# Altium footprint library thd_footp.PcbLib: 15 footprints
Each footprint in its own frame and in the unit in brackets; x right, y up, seen from the top. Pads: shape width x height; smd on the part's side, far side on the other; paste and mask are expansions set on the pad; w line width, h text height; cw(c..) or ccw(c..) is an arc to the next point about the centre after c.
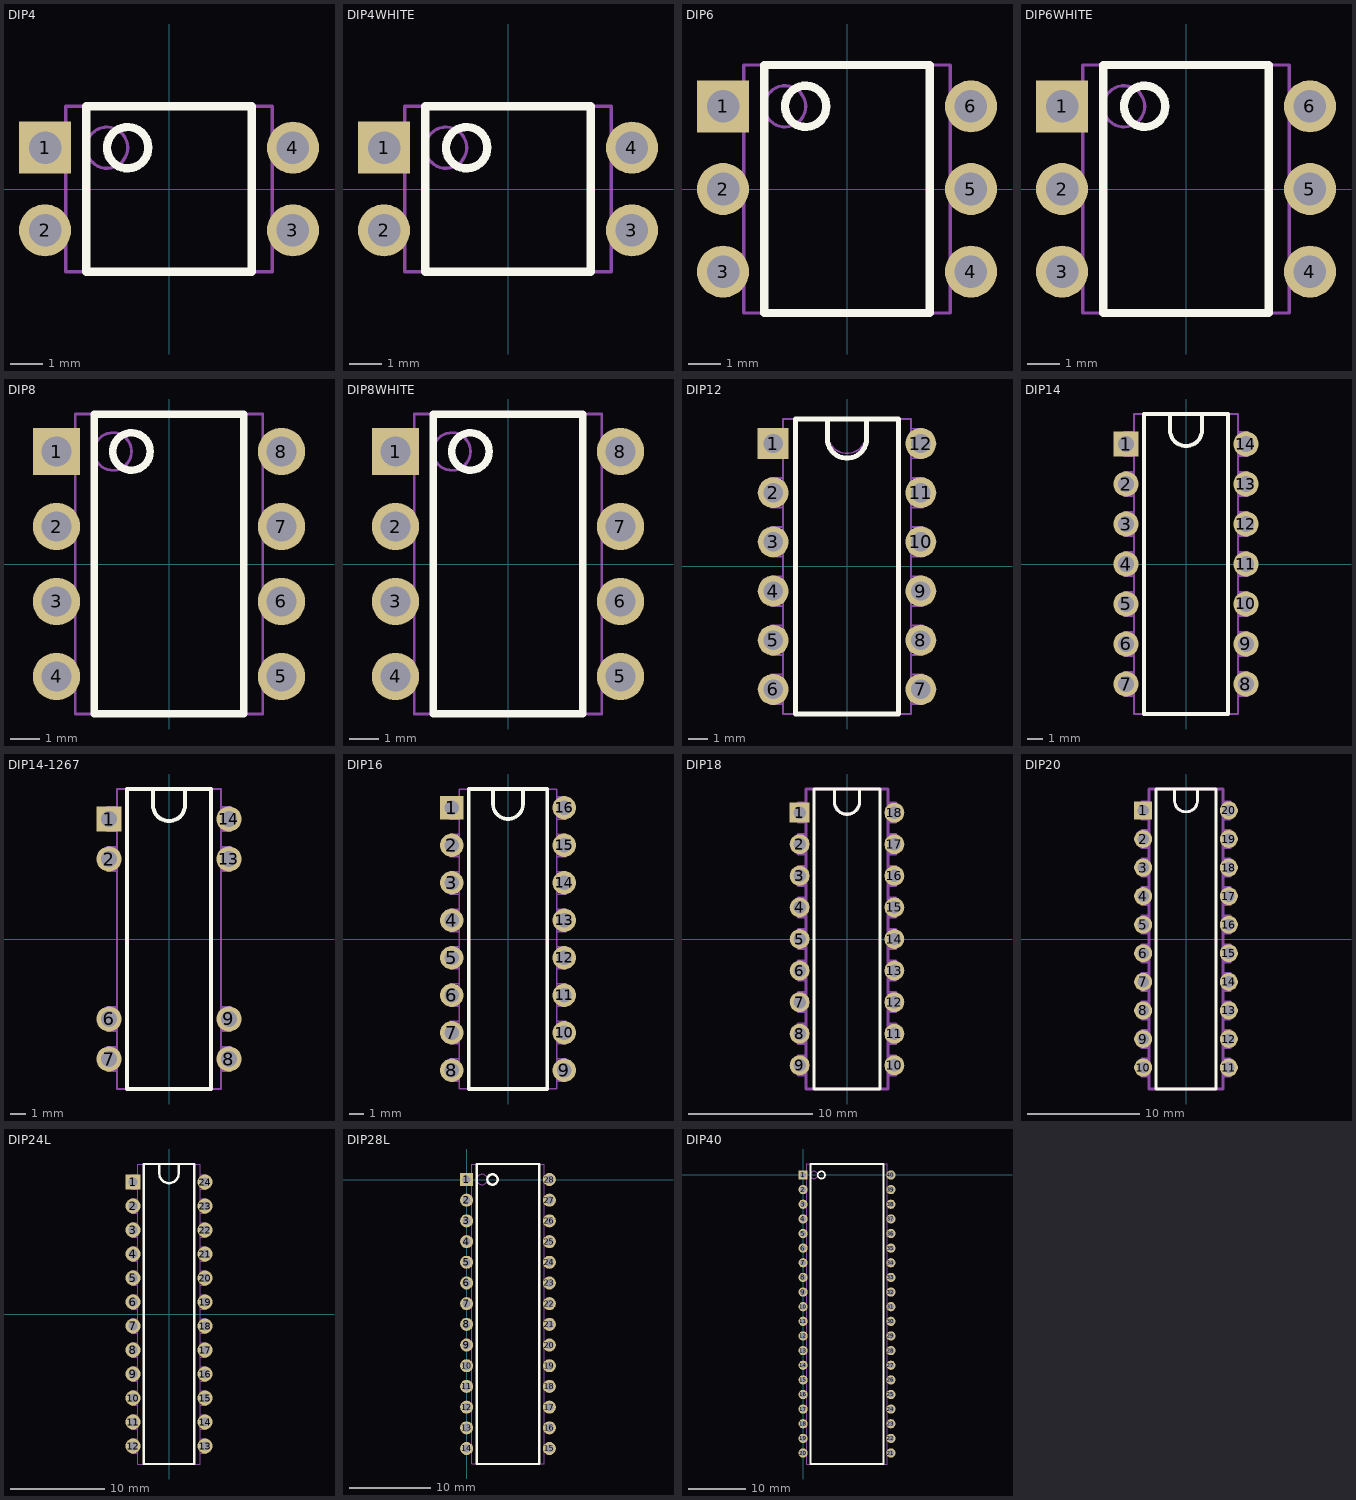
[diagram p0: the footprints below, top view; thin cyan lines are the x and y axes]

## DIP4 [mm]
height 4.6
pads (4):
  rect 1.6x1.6 hole 1: 1(-3.81,1.27)
  round 1.6 hole 1: 2(-3.81,-1.27) 3(3.81,-1.27) 4(3.81,1.27)
Top Overlay:
  circle w0.254: c-1.27,1.27 r0.635
  lines w0.254: -2.54,-2.54 -2.54,2.54 2.54,2.54 2.54,-2.54 -2.54,-2.54
Mechanical 1:
  circle w0.1: c-1.905,1.27 r0.635
  lines w0.1: -3.175,-1.651 -3.81,-1.651 -3.81,-0.889 -3.175,-0.889 ; -3.175,0.889 -3.81,0.889 -3.81,1.651 -3.175,1.651 ; 3.175,-1.651 3.81,-1.651 3.81,-0.889 3.175,-0.889 ; 3.175,0.889 3.81,0.889 3.81,1.651 3.175,1.651 ; -3.175,-2.54 -3.175,2.54 3.175,2.54 3.175,-2.54 -3.175,-2.54
3D body: height 4.5, standoff 1, extent -3.175,-2.54 3.175,2.54
3D body: height 3.2, standoff -3.2, extent 0.81,-1.87 4.01,-0.67
3D body: height 3.2, standoff -3.2, extent 0.81,0.67 4.01,1.87
3D body: height 3.2, standoff -3.2, extent -4.01,-1.87 -0.81,-0.67
3D body: height 3.2, standoff -3.2, extent -4.01,0.67 -0.81,1.87

## DIP4WHITE [mm]
height 4.6
pads (4):
  rect 1.6x1.6 hole 1: 1(-3.81,1.27)
  round 1.6 hole 1: 2(-3.81,-1.27) 3(3.81,-1.27) 4(3.81,1.27)
Top Overlay:
  circle w0.254: c-1.27,1.27 r0.635
  lines w0.254: -2.54,-2.54 2.54,-2.54 2.54,2.54 -2.54,2.54 -2.54,-2.54
Mechanical 1:
  circle w0.1: c-1.905,1.27 r0.635
  lines w0.1: -3.175,-1.651 -3.81,-1.651 -3.81,-0.889 -3.175,-0.889 ; -3.175,0.889 -3.81,0.889 -3.81,1.651 -3.175,1.651 ; 3.175,-1.651 3.81,-1.651 3.81,-0.889 3.175,-0.889 ; 3.175,0.889 3.81,0.889 3.81,1.651 3.175,1.651 ; -3.175,-2.54 3.175,-2.54 3.175,2.54 -3.175,2.54 -3.175,-2.54
3D body: height 3.2, standoff -3.2, extent -4.01,0.67 -0.81,1.87
3D body: height 3.2, standoff -3.2, extent -4.01,-1.87 -0.81,-0.67
3D body: height 3.2, standoff -3.2, extent 0.81,0.67 4.01,1.87
3D body: height 3.2, standoff -3.2, extent 0.81,-1.87 4.01,-0.67
3D body: height 4.5, standoff 1, extent -3.175,-2.54 3.175,2.54

## DIP6 [mm]
height 4.6
pads (6):
  rect 1.6x1.6 hole 1: 1(-3.81,2.54)
  round 1.6 hole 1: 2(-3.81,0) 3(-3.81,-2.54) 4(3.81,-2.54) 5(3.81,0) 6(3.81,2.54)
Top Overlay:
  circle w0.254: c-1.27,2.54 r0.635
  lines w0.254: -2.54,-3.81 2.54,-3.81 2.54,3.81 -2.54,3.81 -2.54,-3.81
Mechanical 1:
  circle w0.1: c-1.905,2.54 r0.635
  lines w0.1: -3.175,-2.921 -3.81,-2.921 -3.81,-2.159 -3.175,-2.159 ; -3.175,-0.381 -3.81,-0.381 -3.81,0.381 -3.175,0.381 ; -3.175,2.159 -3.81,2.159 -3.81,2.921 -3.175,2.921 ; 3.175,-2.921 3.81,-2.921 3.81,-2.159 3.175,-2.159 ; 3.175,-0.381 3.81,-0.381 3.81,0.381 3.175,0.381 ; 3.175,2.159 3.81,2.159 3.81,2.921 3.175,2.921 ; -3.175,-3.81 3.175,-3.81 3.175,3.81 -3.175,3.81 -3.175,-3.81
3D body: height 4.5, standoff 1, extent -3.175,-3.81 3.175,3.81
3D body: height 3.2, standoff -3.2, extent -4.01,1.94 -0.81,3.14
3D body: height 3.2, standoff -3.2, extent -4.01,-0.6 -0.81,0.6
3D body: height 3.2, standoff -3.2, extent -4.01,-3.14 -0.81,-1.94
3D body: height 3.2, standoff -3.2, extent 0.81,1.94 4.01,3.14
3D body: height 3.2, standoff -3.2, extent 0.81,-0.6 4.01,0.6
3D body: height 3.2, standoff -3.2, extent 0.81,-3.14 4.01,-1.94

## DIP6WHITE [mm]
height 4.6
pads (6):
  rect 1.6x1.6 hole 1: 1(-3.81,2.54)
  round 1.6 hole 1: 2(-3.81,0) 3(-3.81,-2.54) 4(3.81,-2.54) 5(3.81,0) 6(3.81,2.54)
Top Overlay:
  circle w0.254: c-1.27,2.54 r0.635
  lines w0.254: -2.54,-3.81 -2.54,3.81 2.54,3.81 2.54,-3.81 -2.54,-3.81
Mechanical 1:
  circle w0.1: c-1.905,2.54 r0.635
  lines w0.1: -3.175,-2.921 -3.81,-2.921 -3.81,-2.159 -3.175,-2.159 ; -3.175,-0.381 -3.81,-0.381 -3.81,0.381 -3.175,0.381 ; -3.175,2.159 -3.81,2.159 -3.81,2.921 -3.175,2.921 ; 3.175,-2.921 3.81,-2.921 3.81,-2.159 3.175,-2.159 ; 3.175,-0.381 3.81,-0.381 3.81,0.381 3.175,0.381 ; 3.175,2.159 3.81,2.159 3.81,2.921 3.175,2.921 ; -3.175,-3.81 -3.175,3.81 3.175,3.81 3.175,-3.81 -3.175,-3.81
3D body: height 4.5, standoff 1, extent -3.175,-3.81 3.175,3.81
3D body: height 3.2, standoff -3.2, extent 0.81,-3.14 4.01,-1.94
3D body: height 3.2, standoff -3.2, extent 0.81,-0.6 4.01,0.6
3D body: height 3.2, standoff -3.2, extent 0.81,1.94 4.01,3.14
3D body: height 3.2, standoff -3.2, extent -4.01,-3.14 -0.81,-1.94
3D body: height 3.2, standoff -3.2, extent -4.01,-0.6 -0.81,0.6
3D body: height 3.2, standoff -3.2, extent -4.01,1.94 -0.81,3.14

## DIP8 [mm]
height 4.6
pads (8):
  rect 1.6x1.6 hole 1: 1(-3.81,3.81)
  round 1.6 hole 1: 2(-3.81,1.27) 3(-3.81,-1.27) 4(-3.81,-3.81) 5(3.81,-3.81) 6(3.81,-1.27) 7(3.81,1.27) 8(3.81,3.81)
Top Overlay:
  circle w0.254: c-1.27,3.81 r0.635
  lines w0.254: -2.54,-5.08 2.54,-5.08 2.54,5.08 -2.54,5.08 -2.54,-5.08
Mechanical 1:
  circle w0.1: c-1.905,3.81 r0.635
  lines w0.1: -3.175,-4.191 -3.81,-4.191 -3.81,-3.429 -3.175,-3.429 ; -3.175,-1.651 -3.81,-1.651 -3.81,-0.889 -3.175,-0.889 ; -3.175,0.889 -3.81,0.889 -3.81,1.651 -3.175,1.651 ; -3.175,3.429 -3.81,3.429 -3.81,4.191 -3.175,4.191 ; 3.175,-4.191 3.81,-4.191 3.81,-3.429 3.175,-3.429 ; 3.175,-1.651 3.81,-1.651 3.81,-0.889 3.175,-0.889 ; 3.175,0.889 3.81,0.889 3.81,1.651 3.175,1.651 ; 3.175,3.429 3.81,3.429 3.81,4.191 3.175,4.191 ; -3.175,-5.08 3.175,-5.08 3.175,5.08 -3.175,5.08 -3.175,-5.08
3D body: height 4.5, standoff 1, extent -3.175,-5.08 3.175,5.08
3D body: height 3.2, standoff -3.2, extent -4.01,3.21 -0.81,4.41
3D body: height 3.2, standoff -3.2, extent -4.01,0.67 -0.81,1.87
3D body: height 3.2, standoff -3.2, extent -4.01,-1.87 -0.81,-0.67
3D body: height 3.2, standoff -3.2, extent -4.01,-4.41 -0.81,-3.21
3D body: height 3.2, standoff -3.2, extent 0.81,3.21 4.01,4.41
3D body: height 3.2, standoff -3.2, extent 0.81,0.67 4.01,1.87
3D body: height 3.2, standoff -3.2, extent 0.81,-1.87 4.01,-0.67
3D body: height 3.2, standoff -3.2, extent 0.81,-4.41 4.01,-3.21

## DIP8WHITE [mm]
height 4.6
pads (8):
  rect 1.6x1.6 hole 1: 1(-3.81,3.81)
  round 1.6 hole 1: 2(-3.81,1.27) 3(-3.81,-1.27) 4(-3.81,-3.81) 5(3.81,-3.81) 6(3.81,-1.27) 7(3.81,1.27) 8(3.81,3.81)
Top Overlay:
  circle w0.254: c-1.27,3.81 r0.635
  lines w0.254: -2.54,-5.08 2.54,-5.08 2.54,5.08 -2.54,5.08 -2.54,-5.08
Mechanical 1:
  circle w0.1: c-1.905,3.81 r0.635
  lines w0.1: -3.175,-4.191 -3.81,-4.191 -3.81,-3.429 -3.175,-3.429 ; -3.175,-1.651 -3.81,-1.651 -3.81,-0.889 -3.175,-0.889 ; -3.175,0.889 -3.81,0.889 -3.81,1.651 -3.175,1.651 ; -3.175,3.429 -3.81,3.429 -3.81,4.191 -3.175,4.191 ; 3.175,-4.191 3.81,-4.191 3.81,-3.429 3.175,-3.429 ; 3.175,-1.651 3.81,-1.651 3.81,-0.889 3.175,-0.889 ; 3.175,0.889 3.81,0.889 3.81,1.651 3.175,1.651 ; 3.175,3.429 3.81,3.429 3.81,4.191 3.175,4.191 ; -3.175,-5.08 3.175,-5.08 3.175,5.08 -3.175,5.08 -3.175,-5.08
3D body: height 3.2, standoff -3.2, extent -4.01,3.21 -0.81,4.41
3D body: height 3.2, standoff -3.2, extent -4.01,0.67 -0.81,1.87
3D body: height 3.2, standoff -3.2, extent -4.01,-1.87 -0.81,-0.67
3D body: height 3.2, standoff -3.2, extent -4.01,-4.41 -0.81,-3.21
3D body: height 3.2, standoff -3.2, extent 0.81,3.21 4.01,4.41
3D body: height 3.2, standoff -3.2, extent 0.81,0.67 4.01,1.87
3D body: height 3.2, standoff -3.2, extent 0.81,-1.87 4.01,-0.67
3D body: height 3.2, standoff -3.2, extent 0.81,-4.41 4.01,-3.21
3D body: height 4.5, standoff 1, extent -3.175,-5.08 3.175,5.08

## DIP12 [mm]
height 4.6
pads (12):
  rect 1.6x1.6 hole 1: 1(-3.81,6.35)
  round 1.6 hole 1: 2(-3.81,3.81) 3(-3.81,1.27) 4(-3.81,-1.27) 5(-3.81,-3.81) 6(-3.81,-6.35) 7(3.81,-6.35) 8(3.81,-3.81) 9(3.81,-1.27) 10(3.81,1.27) 11(3.81,3.81) 12(3.81,6.35)
Top Overlay:
  lines w0.254: -1.016,7.62 -1.016,6.604 ccw(c0,6.604) 1.016,6.604 1.016,7.62 ; -2.667,-7.62 -2.667,7.62 2.667,7.62 2.667,-7.62 -2.667,-7.62
Mechanical 1:
  lines w0.1: -3.302,-7.112 -3.937,-7.112 -3.937,-5.588 -3.302,-5.588 ; -3.302,-4.572 -3.937,-4.572 -3.937,-3.048 -3.302,-3.048 ; -3.302,-2.032 -3.937,-2.032 -3.937,-0.508 -3.302,-0.508 ; -3.302,0.508 -3.937,0.508 -3.937,2.032 -3.302,2.032 ; -3.302,3.048 -3.937,3.048 -3.937,4.572 -3.302,4.572 ; -3.302,5.588 -3.937,5.588 -3.937,7.112 -3.302,7.112 ; -1.016,6.731 -1.016,7.62 ; -1.016,6.858 ccw(c0,6.858) 1.016,6.858 ; 1.016,6.731 1.016,7.62 ; 3.302,-7.112 3.937,-7.112 3.937,-5.588 3.302,-5.588 ; 3.302,-4.572 3.937,-4.572 3.937,-3.048 3.302,-3.048 ; 3.302,-2.032 3.937,-2.032 3.937,-0.508 3.302,-0.508 ; 3.302,0.508 3.937,0.508 3.937,2.032 3.302,2.032 ; 3.302,3.048 3.937,3.048 3.937,4.572 3.302,4.572 ; 3.302,5.588 3.937,5.588 3.937,7.112 3.302,7.112 ; -3.302,-7.62 -3.302,7.62 3.302,7.62 3.302,-7.62 -3.302,-7.62
3D body: height 3.2, standoff -3.2, extent -4.01,5.75 -0.81,6.95
3D body: height 3.2, standoff -3.2, extent -4.01,3.21 -0.81,4.41
3D body: height 3.2, standoff -3.2, extent -4.01,0.67 -0.81,1.87
3D body: height 3.2, standoff -3.2, extent -4.01,-1.87 -0.81,-0.67
3D body: height 3.2, standoff -3.2, extent 0.81,5.75 4.01,6.95
3D body: height 3.2, standoff -3.2, extent 0.81,3.21 4.01,4.41
3D body: height 3.2, standoff -3.2, extent 0.81,0.67 4.01,1.87
3D body: height 3.2, standoff -3.2, extent 0.81,-1.87 4.01,-0.67
3D body: height 3.2, standoff -3.2, extent 0.81,-6.95 4.01,-5.75
3D body: height 3.2, standoff -3.2, extent 0.81,-4.41 4.01,-3.21
3D body: height 3.2, standoff -3.2, extent -4.01,-6.95 -0.81,-5.75
3D body: height 3.2, standoff -3.2, extent -4.01,-4.41 -0.81,-3.21
3D body: height 4.5, standoff 1, extent -3.175,-7.62 3.175,7.62

## DIP14 [mm]
height 4.6
pads (14):
  rect 1.6x1.6 hole 1: 1(-3.81,7.62)
  round 1.6 hole 1: 2(-3.81,5.08) 3(-3.81,2.54) 4(-3.81,0) 5(-3.81,-2.54) 6(-3.81,-5.08) 7(-3.81,-7.62) 8(3.81,-7.62) 9(3.81,-5.08) 10(3.81,-2.54) 11(3.81,0) 12(3.81,2.54) 13(3.81,5.08) 14(3.81,7.62)
Top Overlay:
  lines w0.254: -1.016,9.525 -1.016,8.509 ccw(c0,8.509) 1.016,8.509 1.016,9.525 ; -2.667,-9.525 2.667,-9.525 2.667,9.525 -2.667,9.525 -2.667,-9.525
Mechanical 1:
  lines w0.1: -3.302,-8.382 -3.937,-8.382 -3.937,-6.858 -3.302,-6.858 ; -3.302,-5.842 -3.937,-5.842 -3.937,-4.318 -3.302,-4.318 ; -3.302,-3.302 -3.937,-3.302 -3.937,-1.778 -3.302,-1.778 ; -3.302,-0.762 -3.937,-0.762 -3.937,0.762 -3.302,0.762 ; -3.302,1.778 -3.937,1.778 -3.937,3.302 -3.302,3.302 ; -3.302,4.318 -3.937,4.318 -3.937,5.842 -3.302,5.842 ; -3.302,6.858 -3.937,6.858 -3.937,8.382 -3.302,8.382 ; -1.016,9.525 -1.016,8.509 ccw(c0,8.509) 1.016,8.509 1.016,9.525 ; 3.302,-8.382 3.937,-8.382 3.937,-6.858 3.302,-6.858 ; 3.302,-5.842 3.937,-5.842 3.937,-4.318 3.302,-4.318 ; 3.302,-3.302 3.937,-3.302 3.937,-1.778 3.302,-1.778 ; 3.302,-0.762 3.937,-0.762 3.937,0.762 3.302,0.762 ; 3.302,1.778 3.937,1.778 3.937,3.302 3.302,3.302 ; 3.302,4.318 3.937,4.318 3.937,5.842 3.302,5.842 ; 3.302,6.858 3.937,6.858 3.937,8.382 3.302,8.382 ; -3.302,-9.525 3.302,-9.525 3.302,9.525 -3.302,9.525 -3.302,-9.525
3D body: height 4.5, standoff 1, extent -3.175,-9.525 3.175,9.525
3D body: height 3.2, standoff -3.2, extent -4.01,-3.14 -0.81,-1.94
3D body: height 3.2, standoff -3.2, extent -4.01,-5.68 -0.81,-4.48
3D body: height 3.2, standoff -3.2, extent -4.01,-8.22 -0.81,-7.02
3D body: height 3.2, standoff -3.2, extent 0.81,-3.14 4.01,-1.94
3D body: height 3.2, standoff -3.2, extent 0.81,-5.68 4.01,-4.48
3D body: height 3.2, standoff -3.2, extent 0.81,-8.22 4.01,-7.02
3D body: height 3.2, standoff -3.2, extent 0.81,-0.6 4.01,0.6
3D body: height 3.2, standoff -3.2, extent 0.81,1.94 4.01,3.14
3D body: height 3.2, standoff -3.2, extent 0.81,4.48 4.01,5.68
3D body: height 3.2, standoff -3.2, extent 0.81,7.02 4.01,8.22
3D body: height 3.2, standoff -3.2, extent -4.01,-0.6 -0.81,0.6
3D body: height 3.2, standoff -3.2, extent -4.01,1.94 -0.81,3.14
3D body: height 3.2, standoff -3.2, extent -4.01,4.48 -0.81,5.68
3D body: height 3.2, standoff -3.2, extent -4.01,7.02 -0.81,8.22

## DIP14-1267 [mm]
height 4.6
pads (8):
  rect 1.6x1.6 hole 1: 1(-3.81,7.62)
  round 1.6 hole 1: 2(-3.81,5.08) 6(-3.81,-5.08) 7(-3.81,-7.62) 8(3.81,-7.62) 9(3.81,-5.08) 13(3.81,5.08) 14(3.81,7.62)
Top Overlay:
  lines w0.254: -1.016,9.525 -1.016,8.509 ccw(c0,8.509) 1.016,8.509 1.016,9.525 ; -2.667,-9.525 2.667,-9.525 2.667,9.525 -2.667,9.525 -2.667,-9.525
Mechanical 1:
  lines w0.1: -3.302,-8.382 -3.937,-8.382 -3.937,-6.858 -3.302,-6.858 ; -3.302,-5.842 -3.937,-5.842 -3.937,-4.318 -3.302,-4.318 ; -3.302,4.318 -3.937,4.318 -3.937,5.842 -3.302,5.842 ; -3.302,6.858 -3.937,6.858 -3.937,8.382 -3.302,8.382 ; -1.016,9.525 -1.016,8.509 ccw(c0,8.509) 1.016,8.509 1.016,9.525 ; 3.302,-8.382 3.937,-8.382 3.937,-6.858 3.302,-6.858 ; 3.302,-5.842 3.937,-5.842 3.937,-4.318 3.302,-4.318 ; 3.302,4.318 3.937,4.318 3.937,5.842 3.302,5.842 ; 3.302,6.858 3.937,6.858 3.937,8.382 3.302,8.382 ; -3.302,-9.525 3.302,-9.525 3.302,9.525 -3.302,9.525 -3.302,-9.525
3D body: height 3.2, standoff -3.2, extent -4.01,-5.68 -0.81,-4.48
3D body: height 3.2, standoff -3.2, extent -4.01,-8.22 -0.81,-7.02
3D body: height 3.2, standoff -3.2, extent 0.81,-5.68 4.01,-4.48
3D body: height 3.2, standoff -3.2, extent 0.81,-8.22 4.01,-7.02
3D body: height 3.2, standoff -3.2, extent 0.81,4.48 4.01,5.68
3D body: height 3.2, standoff -3.2, extent 0.81,7.02 4.01,8.22
3D body: height 3.2, standoff -3.2, extent -4.01,4.48 -0.81,5.68
3D body: height 3.2, standoff -3.2, extent -4.01,7.02 -0.81,8.22
3D body: height 4.5, standoff 1, extent -3.175,-9.525 3.175,9.525

## DIP16 [mm]
height 4.6
pads (16):
  rect 1.6x1.6 hole 1: 1(-3.81,8.89)
  round 1.6 hole 1: 2(-3.81,6.35) 3(-3.81,3.81) 4(-3.81,1.27) 5(-3.81,-1.27) 6(-3.81,-3.81) 7(-3.81,-6.35) 8(-3.81,-8.89) 9(3.81,-8.89) 10(3.81,-6.35) 11(3.81,-3.81) 12(3.81,-1.27) 13(3.81,1.27) 14(3.81,3.81) 15(3.81,6.35) 16(3.81,8.89)
Top Overlay:
  lines w0.254: -1.016,10.16 -1.016,9.144 ccw(c0,9.144) 1.016,9.144 1.016,10.16 ; -2.667,-10.16 2.667,-10.16 2.667,10.16 -2.667,10.16 -2.667,-10.16
Mechanical 1:
  lines w0.1: -3.302,-9.652 -3.937,-9.652 -3.937,-8.128 -3.302,-8.128 ; -3.302,-7.112 -3.937,-7.112 -3.937,-5.588 -3.302,-5.588 ; -3.302,-4.572 -3.937,-4.572 -3.937,-3.048 -3.302,-3.048 ; -3.302,-2.032 -3.937,-2.032 -3.937,-0.508 -3.302,-0.508 ; -3.302,0.508 -3.937,0.508 -3.937,2.032 -3.302,2.032 ; -3.302,3.048 -3.937,3.048 -3.937,4.572 -3.302,4.572 ; -3.302,5.588 -3.937,5.588 -3.937,7.112 -3.302,7.112 ; -3.302,8.128 -3.937,8.128 -3.937,9.652 -3.302,9.652 ; -1.016,10.16 -1.016,9.144 ccw(c0,9.144) 1.016,9.144 1.016,10.16 ; 3.302,-9.652 3.937,-9.652 3.937,-8.128 3.302,-8.128 ; 3.302,-7.112 3.937,-7.112 3.937,-5.588 3.302,-5.588 ; 3.302,-4.572 3.937,-4.572 3.937,-3.048 3.302,-3.048 ; 3.302,-2.032 3.937,-2.032 3.937,-0.508 3.302,-0.508 ; 3.302,0.508 3.937,0.508 3.937,2.032 3.302,2.032 ; 3.302,3.048 3.937,3.048 3.937,4.572 3.302,4.572 ; 3.302,5.588 3.937,5.588 3.937,7.112 3.302,7.112 ; 3.302,8.128 3.937,8.128 3.937,9.652 3.302,9.652 ; -3.302,-10.16 3.302,-10.16 3.302,10.16 -3.302,10.16 -3.302,-10.16
3D body: height 3.2, standoff -3.2, extent 0.81,-9.49 4.01,-8.29
3D body: height 3.2, standoff -3.2, extent -4.01,-9.49 -0.81,-8.29
3D body: height 3.2, standoff -3.2, extent -4.01,-1.87 -0.81,-0.67
3D body: height 3.2, standoff -3.2, extent -4.01,-4.41 -0.81,-3.21
3D body: height 3.2, standoff -3.2, extent -4.01,-6.95 -0.81,-5.75
3D body: height 3.2, standoff -3.2, extent 0.81,-1.87 4.01,-0.67
3D body: height 3.2, standoff -3.2, extent 0.81,-4.41 4.01,-3.21
3D body: height 3.2, standoff -3.2, extent 0.81,-6.95 4.01,-5.75
3D body: height 3.2, standoff -3.2, extent 0.81,0.67 4.01,1.87
3D body: height 3.2, standoff -3.2, extent 0.81,3.21 4.01,4.41
3D body: height 3.2, standoff -3.2, extent 0.81,5.75 4.01,6.95
3D body: height 3.2, standoff -3.2, extent 0.81,8.29 4.01,9.49
3D body: height 3.2, standoff -3.2, extent -4.01,0.67 -0.81,1.87
3D body: height 3.2, standoff -3.2, extent -4.01,3.21 -0.81,4.41
3D body: height 3.2, standoff -3.2, extent -4.01,5.75 -0.81,6.95
3D body: height 3.2, standoff -3.2, extent -4.01,8.29 -0.81,9.49
3D body: height 4.5, standoff 1, extent -3.175,-10.16 3.175,10.16

## DIP18 [mm]
height 4.6
pads (18):
  rect 1.6x1.6 hole 1: 1(-3.81,10.16)
  round 1.6 hole 1: 2(-3.81,7.62) 3(-3.81,5.08) 4(-3.81,2.54) 5(-3.81,0) 6(-3.81,-2.54) 7(-3.81,-5.08) 8(-3.81,-7.62) 9(-3.81,-10.16) 10(3.81,-10.16) 11(3.81,-7.62) 12(3.81,-5.08) 13(3.81,-2.54) 14(3.81,0) 15(3.81,2.54) 16(3.81,5.08) 17(3.81,7.62) 18(3.81,10.16)
Top Overlay:
  lines w0.254: -1.016,12.065 -1.016,11.049 ccw(c0,11.049) 1.016,11.049 1.016,12.065 ; -2.667,-12.065 -2.667,12.065 2.667,12.065 2.667,-12.065 -2.667,-12.065
Mechanical 1:
  lines w0.254: -3.302,-10.922 -3.937,-10.922 -3.937,-9.398 -3.302,-9.398 ; -3.302,-8.382 -3.937,-8.382 -3.937,-6.858 -3.302,-6.858 ; -3.302,-5.842 -3.937,-5.842 -3.937,-4.318 -3.302,-4.318 ; -3.302,-3.302 -3.937,-3.302 -3.937,-1.778 -3.302,-1.778 ; -3.302,-0.762 -3.937,-0.762 -3.937,0.762 -3.302,0.762 ; -3.302,1.778 -3.937,1.778 -3.937,3.302 -3.302,3.302 ; -3.302,4.318 -3.937,4.318 -3.937,5.842 -3.302,5.842 ; -3.302,6.858 -3.937,6.858 -3.937,8.382 -3.302,8.382 ; -3.302,9.398 -3.937,9.398 -3.937,10.922 -3.302,10.922 ; -1.016,12.065 -1.016,11.049 ccw(c0,11.049) 1.016,11.049 1.016,12.065 ; 3.302,-10.922 3.937,-10.922 3.937,-9.398 3.302,-9.398 ; 3.302,-8.382 3.937,-8.382 3.937,-6.858 3.302,-6.858 ; 3.302,-5.842 3.937,-5.842 3.937,-4.318 3.302,-4.318 ; 3.302,-3.302 3.937,-3.302 3.937,-1.778 3.302,-1.778 ; 3.302,-0.762 3.937,-0.762 3.937,0.762 3.302,0.762 ; 3.302,1.778 3.937,1.778 3.937,3.302 3.302,3.302 ; 3.302,4.318 3.937,4.318 3.937,5.842 3.302,5.842 ; 3.302,6.858 3.937,6.858 3.937,8.382 3.302,8.382 ; 3.302,9.398 3.937,9.398 3.937,10.922 3.302,10.922 ; -3.302,-12.065 -3.302,12.065 3.302,12.065 3.302,-12.065 -3.302,-12.065
3D body: height 3.2, standoff -3.2, extent -4.01,9.56 -0.81,10.76
3D body: height 3.2, standoff -3.2, extent -4.01,7.02 -0.81,8.22
3D body: height 3.2, standoff -3.2, extent -4.01,4.48 -0.81,5.68
3D body: height 3.2, standoff -3.2, extent -4.01,1.94 -0.81,3.14
3D body: height 3.2, standoff -3.2, extent 0.81,9.56 4.01,10.76
3D body: height 3.2, standoff -3.2, extent 0.81,7.02 4.01,8.22
3D body: height 3.2, standoff -3.2, extent 0.81,4.48 4.01,5.68
3D body: height 3.2, standoff -3.2, extent 0.81,1.94 4.01,3.14
3D body: height 3.2, standoff -3.2, extent 0.81,-5.68 4.01,-4.48
3D body: height 3.2, standoff -3.2, extent 0.81,-3.14 4.01,-1.94
3D body: height 3.2, standoff -3.2, extent 0.81,-0.6 4.01,0.6
3D body: height 3.2, standoff -3.2, extent -4.01,-5.68 -0.81,-4.48
3D body: height 3.2, standoff -3.2, extent -4.01,-3.14 -0.81,-1.94
3D body: height 3.2, standoff -3.2, extent -4.01,-0.6 -0.81,0.6
3D body: height 3.2, standoff -3.2, extent -4.01,-8.22 -0.81,-7.02
3D body: height 3.2, standoff -3.2, extent 0.81,-8.22 4.01,-7.02
3D body: height 3.2, standoff -3.2, extent -4.01,-10.76 -0.81,-9.56
3D body: height 3.2, standoff -3.2, extent 0.81,-10.76 4.01,-9.56
3D body: height 4.5, standoff 1, extent -3.175,-12.065 3.175,12.065

## DIP20 [mm]
height 4.6
pads (20):
  rect 1.6x1.6 hole 1: 1(-3.81,11.43)
  round 1.6 hole 1: 2(-3.81,8.89) 3(-3.81,6.35) 4(-3.81,3.81) 5(-3.81,1.27) 6(-3.81,-1.27) 7(-3.81,-3.81) 8(-3.81,-6.35) 9(-3.81,-8.89) 10(-3.81,-11.43) 11(3.81,-11.43) 12(3.81,-8.89) 13(3.81,-6.35) 14(3.81,-3.81) 15(3.81,-1.27) 16(3.81,1.27) 17(3.81,3.81) 18(3.81,6.35) 19(3.81,8.89) 20(3.81,11.43)
Top Overlay:
  lines w0.254: -1.016,13.335 -1.016,12.319 ccw(c0,12.319) 1.016,12.319 1.016,13.335 ; -2.667,-13.335 -2.667,13.335 2.667,13.335 2.667,-13.335 -2.667,-13.335
Mechanical 1:
  lines w0.254: -3.302,-12.192 -3.937,-12.192 -3.937,-10.668 -3.302,-10.668 ; -3.302,-9.652 -3.937,-9.652 -3.937,-8.128 -3.302,-8.128 ; -3.302,-7.112 -3.937,-7.112 -3.937,-5.588 -3.302,-5.588 ; -3.302,-4.572 -3.937,-4.572 -3.937,-3.048 -3.302,-3.048 ; -3.302,-2.032 -3.937,-2.032 -3.937,-0.508 -3.302,-0.508 ; -3.302,0.508 -3.937,0.508 -3.937,2.032 -3.302,2.032 ; -3.302,3.048 -3.937,3.048 -3.937,4.572 -3.302,4.572 ; -3.302,5.588 -3.937,5.588 -3.937,7.112 -3.302,7.112 ; -3.302,8.128 -3.937,8.128 -3.937,9.652 -3.302,9.652 ; -3.302,10.668 -3.937,10.668 -3.937,12.192 -3.302,12.192 ; -1.016,13.335 -1.016,12.319 ccw(c0,12.319) 1.016,12.319 1.016,13.335 ; 3.302,-12.192 3.937,-12.192 3.937,-10.668 3.302,-10.668 ; 3.302,-9.652 3.937,-9.652 3.937,-8.128 3.302,-8.128 ; 3.302,-7.112 3.937,-7.112 3.937,-5.588 3.302,-5.588 ; 3.302,-4.572 3.937,-4.572 3.937,-3.048 3.302,-3.048 ; 3.302,-2.032 3.937,-2.032 3.937,-0.508 3.302,-0.508 ; 3.302,0.508 3.937,0.508 3.937,2.032 3.302,2.032 ; 3.302,3.048 3.937,3.048 3.937,4.572 3.302,4.572 ; 3.302,5.588 3.937,5.588 3.937,7.112 3.302,7.112 ; 3.302,8.128 3.937,8.128 3.937,9.652 3.302,9.652 ; 3.302,10.668 3.937,10.668 3.937,12.192 3.302,12.192 ; -3.302,-13.335 -3.302,13.335 3.302,13.335 3.302,-13.335 -3.302,-13.335
3D body: height 3.2, standoff -3.2, extent -4.01,10.83 -0.81,12.03
3D body: height 3.2, standoff -3.2, extent -4.01,8.29 -0.81,9.49
3D body: height 3.2, standoff -3.2, extent -4.01,5.75 -0.81,6.95
3D body: height 3.2, standoff -3.2, extent -4.01,3.21 -0.81,4.41
3D body: height 3.2, standoff -3.2, extent 0.81,10.83 4.01,12.03
3D body: height 3.2, standoff -3.2, extent 0.81,8.29 4.01,9.49
3D body: height 3.2, standoff -3.2, extent 0.81,5.75 4.01,6.95
3D body: height 3.2, standoff -3.2, extent 0.81,3.21 4.01,4.41
3D body: height 3.2, standoff -3.2, extent 0.81,-4.41 4.01,-3.21
3D body: height 3.2, standoff -3.2, extent 0.81,-1.87 4.01,-0.67
3D body: height 3.2, standoff -3.2, extent 0.81,0.67 4.01,1.87
3D body: height 3.2, standoff -3.2, extent -4.01,-4.41 -0.81,-3.21
3D body: height 3.2, standoff -3.2, extent -4.01,-1.87 -0.81,-0.67
3D body: height 3.2, standoff -3.2, extent -4.01,0.67 -0.81,1.87
3D body: height 3.2, standoff -3.2, extent -4.01,-6.95 -0.81,-5.75
3D body: height 3.2, standoff -3.2, extent 0.81,-6.95 4.01,-5.75
3D body: height 3.2, standoff -3.2, extent 0.81,-12.03 4.01,-10.83
3D body: height 3.2, standoff -3.2, extent -4.01,-12.03 -0.81,-10.83
3D body: height 3.2, standoff -3.2, extent -4.01,-9.49 -0.81,-8.29
3D body: height 3.2, standoff -3.2, extent 0.81,-9.49 4.01,-8.29
3D body: height 4.5, standoff 1, extent -3.175,-13.335 3.175,13.335

## DIP24L [mm]
height 4.6
pads (24):
  rect 1.6x1.6 hole 1: 1(-3.81,13.97)
  round 1.6 hole 1: 2(-3.81,11.43) 3(-3.81,8.89) 4(-3.81,6.35) 5(-3.81,3.81) 6(-3.81,1.27) 7(-3.81,-1.27) 8(-3.81,-3.81) 9(-3.81,-6.35) 10(-3.81,-8.89) 11(-3.81,-11.43) 12(-3.81,-13.97) 13(3.81,-13.97) 14(3.81,-11.43) 15(3.81,-8.89) 16(3.81,-6.35) 17(3.81,-3.81) 18(3.81,-1.27) 19(3.81,1.27) 20(3.81,3.81) 21(3.81,6.35) 22(3.81,8.89) 23(3.81,11.43) 24(3.81,13.97)
Top Overlay:
  lines w0.254: -1.016,15.875 -1.016,14.859 ccw(c0,14.859) 1.016,14.859 1.016,15.875 ; -2.667,-15.875 -2.667,15.875 2.667,15.875 2.667,-15.875 -2.667,-15.875
Mechanical 1:
  lines w0.1: -3.302,-14.732 -3.937,-14.732 -3.937,-13.208 -3.302,-13.208 ; -3.302,-12.192 -3.937,-12.192 -3.937,-10.668 -3.302,-10.668 ; -3.302,-9.652 -3.937,-9.652 -3.937,-8.128 -3.302,-8.128 ; -3.302,-7.112 -3.937,-7.112 -3.937,-5.588 -3.302,-5.588 ; -3.302,-4.572 -3.937,-4.572 -3.937,-3.048 -3.302,-3.048 ; -3.302,-2.032 -3.937,-2.032 -3.937,-0.508 -3.302,-0.508 ; -3.302,0.508 -3.937,0.508 -3.937,2.032 -3.302,2.032 ; -3.302,3.048 -3.937,3.048 -3.937,4.572 -3.302,4.572 ; -3.302,5.588 -3.937,5.588 -3.937,7.112 -3.302,7.112 ; -3.302,8.128 -3.937,8.128 -3.937,9.652 -3.302,9.652 ; -3.302,10.668 -3.937,10.668 -3.937,12.192 -3.302,12.192 ; -3.302,13.208 -3.937,13.208 -3.937,14.732 -3.302,14.732 ; -1.016,15.875 -1.016,14.859 ccw(c0,14.859) 1.016,14.859 1.016,15.875 ; 3.302,-14.732 3.937,-14.732 3.937,-13.208 3.302,-13.208 ; 3.302,-12.192 3.937,-12.192 3.937,-10.668 3.302,-10.668 ; 3.302,-9.652 3.937,-9.652 3.937,-8.128 3.302,-8.128 ; 3.302,-7.112 3.937,-7.112 3.937,-5.588 3.302,-5.588 ; 3.302,-4.572 3.937,-4.572 3.937,-3.048 3.302,-3.048 ; 3.302,-2.032 3.937,-2.032 3.937,-0.508 3.302,-0.508 ; 3.302,0.508 3.937,0.508 3.937,2.032 3.302,2.032 ; 3.302,3.048 3.937,3.048 3.937,4.572 3.302,4.572 ; 3.302,5.588 3.937,5.588 3.937,7.112 3.302,7.112 ; 3.302,8.128 3.937,8.128 3.937,9.652 3.302,9.652 ; 3.302,10.668 3.937,10.668 3.937,12.192 3.302,12.192 ; 3.302,13.208 3.937,13.208 3.937,14.732 3.302,14.732 ; -3.302,-15.875 -3.302,15.875 3.302,15.875 3.302,-15.875 -3.302,-15.875
3D body: height 3.2, standoff -3.2, extent 0.81,-12.03 4.01,-10.83
3D body: height 3.2, standoff -3.2, extent -4.01,-12.03 -0.81,-10.83
3D body: height 3.2, standoff -3.2, extent -4.01,-14.57 -0.81,-13.37
3D body: height 3.2, standoff -3.2, extent 0.81,-14.57 4.01,-13.37
3D body: height 3.2, standoff -3.2, extent -4.01,13.37 -0.81,14.57
3D body: height 3.2, standoff -3.2, extent -4.01,10.83 -0.81,12.03
3D body: height 3.2, standoff -3.2, extent -4.01,8.29 -0.81,9.49
3D body: height 3.2, standoff -3.2, extent -4.01,5.75 -0.81,6.95
3D body: height 3.2, standoff -3.2, extent 0.81,13.37 4.01,14.57
3D body: height 3.2, standoff -3.2, extent 0.81,10.83 4.01,12.03
3D body: height 3.2, standoff -3.2, extent 0.81,8.29 4.01,9.49
3D body: height 3.2, standoff -3.2, extent 0.81,5.75 4.01,6.95
3D body: height 3.2, standoff -3.2, extent 0.81,-1.87 4.01,-0.67
3D body: height 3.2, standoff -3.2, extent 0.81,0.67 4.01,1.87
3D body: height 3.2, standoff -3.2, extent 0.81,3.21 4.01,4.41
3D body: height 3.2, standoff -3.2, extent -4.01,-1.87 -0.81,-0.67
3D body: height 3.2, standoff -3.2, extent -4.01,0.67 -0.81,1.87
3D body: height 3.2, standoff -3.2, extent -4.01,3.21 -0.81,4.41
3D body: height 3.2, standoff -3.2, extent -4.01,-4.41 -0.81,-3.21
3D body: height 3.2, standoff -3.2, extent 0.81,-4.41 4.01,-3.21
3D body: height 3.2, standoff -3.2, extent 0.81,-9.49 4.01,-8.29
3D body: height 3.2, standoff -3.2, extent -4.01,-9.49 -0.81,-8.29
3D body: height 3.2, standoff -3.2, extent -4.01,-6.95 -0.81,-5.75
3D body: height 3.2, standoff -3.2, extent 0.81,-6.95 4.01,-5.75
3D body: height 4.5, standoff 1, extent -3.175,-15.875 3.175,15.875

## DIP28L [mm]
height 4.6
pads (28):
  rect 1.6x1.6 hole 1: 1(0,0)
  round 1.6 hole 1: 2(0,-2.54) 3(0,-5.08) 4(0,-7.62) 5(0,-10.16) 6(0,-12.7) 7(0,-15.24) 8(0,-17.78) 9(0,-20.32) 10(0,-22.86) 11(0,-25.4) 12(0,-27.94) 13(0,-30.48) 14(0,-33.02) 15(10.16,-33.02) 16(10.16,-30.48) 17(10.16,-27.94) 18(10.16,-25.4) 19(10.16,-22.86) 20(10.16,-20.32) 21(10.16,-17.78) 22(10.16,-15.24) 23(10.16,-12.7) 24(10.16,-10.16) 25(10.16,-7.62) 26(10.16,-5.08) 27(10.16,-2.54) 28(10.16,0)
Top Overlay:
  circle w0.3: c3.175,0 r0.635
  lines w0.3: 1.27,-34.925 8.89,-34.925 8.89,1.905 1.27,1.905 1.27,-34.925
Mechanical 1:
  circle w0.1: c1.905,0 r0.635
  lines w0.1: 0.635,-33.401 0,-33.401 0,-32.639 0.635,-32.639 ; 0.635,-30.861 0,-30.861 0,-30.099 0.635,-30.099 ; 0.635,-28.321 0,-28.321 0,-27.559 0.635,-27.559 ; 0.635,-25.781 0,-25.781 0,-25.019 0.635,-25.019 ; 0.635,-23.241 0,-23.241 0,-22.479 0.635,-22.479 ; 0.635,-20.701 0,-20.701 0,-19.939 0.635,-19.939 ; 0.635,-18.161 0,-18.161 0,-17.399 0.635,-17.399 ; 0.635,-15.621 0,-15.621 0,-14.859 0.635,-14.859 ; 0.635,-13.081 0,-13.081 0,-12.319 0.635,-12.319 ; 0.635,-10.541 0,-10.541 0,-9.779 0.635,-9.779 ; 0.635,-8.001 0,-8.001 0,-7.239 0.635,-7.239 ; 0.635,-5.461 0,-5.461 0,-4.699 0.635,-4.699 ; 0.635,-2.921 0,-2.921 0,-2.159 0.635,-2.159 ; 0.635,-0.381 0,-0.381 0,0.381 0.635,0.381 ; 9.525,-33.401 10.16,-33.401 10.16,-32.639 9.525,-32.639 ; 9.525,-30.861 10.16,-30.861 10.16,-30.099 9.525,-30.099 ; 9.525,-28.321 10.16,-28.321 10.16,-27.559 9.525,-27.559 ; 9.525,-25.781 10.16,-25.781 10.16,-25.019 9.525,-25.019 ; 9.525,-23.241 10.16,-23.241 10.16,-22.479 9.525,-22.479 ; 9.525,-20.701 10.16,-20.701 10.16,-19.939 9.525,-19.939 ; 9.525,-18.161 10.16,-18.161 10.16,-17.399 9.525,-17.399 ; 9.525,-15.621 10.16,-15.621 10.16,-14.859 9.525,-14.859 ; 9.525,-13.081 10.16,-13.081 10.16,-12.319 9.525,-12.319 ; 9.525,-10.541 10.16,-10.541 10.16,-9.779 9.525,-9.779 ; 9.525,-8.001 10.16,-8.001 10.16,-7.239 9.525,-7.239 ; 9.525,-5.461 10.16,-5.461 10.16,-4.699 9.525,-4.699 ; 9.525,-2.921 10.16,-2.921 10.16,-2.159 9.525,-2.159 ; 9.525,-0.381 10.16,-0.381 10.16,0.381 9.525,0.381 ; 0.635,-34.925 9.525,-34.925 9.525,1.905 0.635,1.905 0.635,-34.925
3D body: height 3.2, standoff -3.2, extent 7.16,-33.62 10.36,-32.42
3D body: height 3.2, standoff -3.2, extent 7.16,-31.08 10.36,-29.88
3D body: height 3.2, standoff -3.2, extent 7.16,-26 10.36,-24.8
3D body: height 3.2, standoff -3.2, extent 7.16,-28.54 10.36,-27.34
3D body: height 3.2, standoff -3.2, extent 7.16,-0.6 10.36,0.6
3D body: height 3.2, standoff -3.2, extent 7.16,-3.14 10.36,-1.94
3D body: height 3.2, standoff -3.2, extent 7.16,-5.68 10.36,-4.48
3D body: height 3.2, standoff -3.2, extent 7.16,-8.22 10.36,-7.02
3D body: height 3.2, standoff -3.2, extent 7.16,-15.84 10.36,-14.64
3D body: height 3.2, standoff -3.2, extent 7.16,-13.3 10.36,-12.1
3D body: height 3.2, standoff -3.2, extent 7.16,-10.76 10.36,-9.56
3D body: height 3.2, standoff -3.2, extent 7.16,-18.38 10.36,-17.18
3D body: height 3.2, standoff -3.2, extent 7.16,-23.46 10.36,-22.26
3D body: height 3.2, standoff -3.2, extent 7.16,-20.92 10.36,-19.72
3D body: height 3.2, standoff -3.2, extent -0.2,-20.92 3,-19.72
3D body: height 3.2, standoff -3.2, extent -0.2,-23.46 3,-22.26
3D body: height 3.2, standoff -3.2, extent -0.2,-18.38 3,-17.18
3D body: height 3.2, standoff -3.2, extent -0.2,-10.76 3,-9.56
3D body: height 3.2, standoff -3.2, extent -0.2,-13.3 3,-12.1
3D body: height 3.2, standoff -3.2, extent -0.2,-15.84 3,-14.64
3D body: height 4.5, standoff 1, extent 0.762,-34.798 9.398,1.778
3D body: height 3.2, standoff -3.2, extent -0.2,-8.22 3,-7.02
3D body: height 3.2, standoff -3.2, extent -0.2,-5.68 3,-4.48
3D body: height 3.2, standoff -3.2, extent -0.2,-3.14 3,-1.94
3D body: height 3.2, standoff -3.2, extent -0.2,-0.6 3,0.6
3D body: height 3.2, standoff -3.2, extent -0.2,-28.54 3,-27.34
3D body: height 3.2, standoff -3.2, extent -0.2,-26 3,-24.8
3D body: height 3.2, standoff -3.2, extent -0.2,-31.08 3,-29.88
3D body: height 3.2, standoff -3.2, extent -0.2,-33.62 3,-32.42

## DIP40 [mm]
height 4.6
pads (40):
  rect 1.6x1.6 hole 1: 1(0,0)
  round 1.6 hole 1: 2(0,-2.54) 3(0,-5.08) 4(0,-7.62) 5(0,-10.16) 6(0,-12.7) 7(0,-15.24) 8(0,-17.78) 9(0,-20.32) 10(0,-22.86) 11(0,-25.4) 12(0,-27.94) 13(0,-30.48) 14(0,-33.02) 15(0,-35.56) 16(0,-38.1) 17(0,-40.64) 18(0,-43.18) 19(0,-45.72) 20(0,-48.26) 21(15.24,-48.26) 22(15.24,-45.72) 23(15.24,-43.18) 24(15.24,-40.64) 25(15.24,-38.1) 26(15.24,-35.56) 27(15.24,-33.02) 28(15.24,-30.48) 29(15.24,-27.94) 30(15.24,-25.4) 31(15.24,-22.86) 32(15.24,-20.32) 33(15.24,-17.78) 34(15.24,-15.24) 35(15.24,-12.7) 36(15.24,-10.16) 37(15.24,-7.62) 38(15.24,-5.08) 39(15.24,-2.54) 40(15.24,0)
Top Overlay:
  circle w0.3: c3.175,0 r0.635
  lines w0.3: 1.27,-50.165 1.27,1.905 13.97,1.905 13.97,-50.165 1.27,-50.165
Mechanical 1:
  circle w0.1: c1.905,0 r0.635
  lines w0.1: 0.635,-48.641 0,-48.641 0,-47.879 0.635,-47.879 ; 0.635,-46.101 0,-46.101 0,-45.339 0.635,-45.339 ; 0.635,-43.561 0,-43.561 0,-42.799 0.635,-42.799 ; 0.635,-41.021 0,-41.021 0,-40.259 0.635,-40.259 ; 0.635,-38.481 0,-38.481 0,-37.719 0.635,-37.719 ; 0.635,-35.941 0,-35.941 0,-35.179 0.635,-35.179 ; 0.635,-33.401 0,-33.401 0,-32.639 0.635,-32.639 ; 0.635,-30.861 0,-30.861 0,-30.099 0.635,-30.099 ; 0.635,-28.321 0,-28.321 0,-27.559 0.635,-27.559 ; 0.635,-25.781 0,-25.781 0,-25.019 0.635,-25.019 ; 0.635,-23.241 0,-23.241 0,-22.479 0.635,-22.479 ; 0.635,-20.701 0,-20.701 0,-19.939 0.635,-19.939 ; 0.635,-18.161 0,-18.161 0,-17.399 0.635,-17.399 ; 0.635,-15.621 0,-15.621 0,-14.859 0.635,-14.859 ; 0.635,-13.081 0,-13.081 0,-12.319 0.635,-12.319 ; 0.635,-10.541 0,-10.541 0,-9.779 0.635,-9.779 ; 0.635,-8.001 0,-8.001 0,-7.239 0.635,-7.239 ; 0.635,-5.461 0,-5.461 0,-4.699 0.635,-4.699 ; 0.635,-2.921 0,-2.921 0,-2.159 0.635,-2.159 ; 0.635,-0.381 0,-0.381 0,0.381 0.635,0.381 ; 14.605,-48.641 15.24,-48.641 15.24,-47.879 14.605,-47.879 ; 14.605,-46.101 15.24,-46.101 15.24,-45.339 14.605,-45.339 ; 14.605,-43.561 15.24,-43.561 15.24,-42.799 14.605,-42.799 ; 14.605,-41.021 15.24,-41.021 15.24,-40.259 14.605,-40.259 ; 14.605,-38.481 15.24,-38.481 15.24,-37.719 14.605,-37.719 ; 14.605,-35.941 15.24,-35.941 15.24,-35.179 14.605,-35.179 ; 14.605,-33.401 15.24,-33.401 15.24,-32.639 14.605,-32.639 ; 14.605,-30.861 15.24,-30.861 15.24,-30.099 14.605,-30.099 ; 14.605,-28.321 15.24,-28.321 15.24,-27.559 14.605,-27.559 ; 14.605,-25.781 15.24,-25.781 15.24,-25.019 14.605,-25.019 ; 14.605,-23.241 15.24,-23.241 15.24,-22.479 14.605,-22.479 ; 14.605,-20.701 15.24,-20.701 15.24,-19.939 14.605,-19.939 ; 14.605,-18.161 15.24,-18.161 15.24,-17.399 14.605,-17.399 ; 14.605,-15.621 15.24,-15.621 15.24,-14.859 14.605,-14.859 ; 14.605,-13.081 15.24,-13.081 15.24,-12.319 14.605,-12.319 ; 14.605,-10.541 15.24,-10.541 15.24,-9.779 14.605,-9.779 ; 14.605,-8.001 15.24,-8.001 15.24,-7.239 14.605,-7.239 ; 14.605,-5.461 15.24,-5.461 15.24,-4.699 14.605,-4.699 ; 14.605,-2.921 15.24,-2.921 15.24,-2.159 14.605,-2.159 ; 14.605,-0.381 15.24,-0.381 15.24,0.381 14.605,0.381 ; 0.635,-50.165 0.635,1.905 14.605,1.905 14.605,-50.165 0.635,-50.165
3D body: height 3.2, standoff -3.2, extent -0.2,-20.92 3,-19.72
3D body: height 3.2, standoff -3.2, extent -0.2,-23.46 3,-22.26
3D body: height 3.2, standoff -3.2, extent -0.2,-18.38 3,-17.18
3D body: height 3.2, standoff -3.2, extent -0.2,-10.76 3,-9.56
3D body: height 3.2, standoff -3.2, extent -0.2,-13.3 3,-12.1
3D body: height 3.2, standoff -3.2, extent -0.2,-15.84 3,-14.64
3D body: height 4.5, standoff 1, extent 0.762,-50.038 14.478,1.778
3D body: height 3.2, standoff -3.2, extent -0.2,-8.22 3,-7.02
3D body: height 3.2, standoff -3.2, extent -0.2,-5.68 3,-4.48
3D body: height 3.2, standoff -3.2, extent -0.2,-3.14 3,-1.94
3D body: height 3.2, standoff -3.2, extent -0.2,-0.6 3,0.6
3D body: height 3.2, standoff -3.2, extent -0.2,-28.54 3,-27.34
3D body: height 3.2, standoff -3.2, extent -0.2,-26 3,-24.8
3D body: height 3.2, standoff -3.2, extent -0.2,-31.08 3,-29.88
3D body: height 3.2, standoff -3.2, extent -0.2,-33.62 3,-32.42
3D body: height 3.2, standoff -3.2, extent 12.24,-20.92 15.44,-19.72
3D body: height 3.2, standoff -3.2, extent 12.24,-23.46 15.44,-22.26
3D body: height 3.2, standoff -3.2, extent 12.24,-18.38 15.44,-17.18
3D body: height 3.2, standoff -3.2, extent 12.24,-10.76 15.44,-9.56
3D body: height 3.2, standoff -3.2, extent 12.24,-13.3 15.44,-12.1
3D body: height 3.2, standoff -3.2, extent 12.24,-15.84 15.44,-14.64
3D body: height 3.2, standoff -3.2, extent 12.24,-8.22 15.44,-7.02
3D body: height 3.2, standoff -3.2, extent 12.24,-5.68 15.44,-4.48
3D body: height 3.2, standoff -3.2, extent 12.24,-3.14 15.44,-1.94
3D body: height 3.2, standoff -3.2, extent 12.24,-0.6 15.44,0.6
3D body: height 3.2, standoff -3.2, extent 12.24,-28.54 15.44,-27.34
3D body: height 3.2, standoff -3.2, extent 12.24,-26 15.44,-24.8
3D body: height 3.2, standoff -3.2, extent 12.24,-31.08 15.44,-29.88
3D body: height 3.2, standoff -3.2, extent 12.24,-33.62 15.44,-32.42
3D body: height 3.2, standoff -3.2, extent 12.24,-48.86 15.44,-47.66
3D body: height 3.2, standoff -3.2, extent 12.24,-46.32 15.44,-45.12
3D body: height 3.2, standoff -3.2, extent 12.24,-41.24 15.44,-40.04
3D body: height 3.2, standoff -3.2, extent 12.24,-43.78 15.44,-42.58
3D body: height 3.2, standoff -3.2, extent 12.24,-38.7 15.44,-37.5
3D body: height 3.2, standoff -3.2, extent 12.24,-36.16 15.44,-34.96
3D body: height 3.2, standoff -3.2, extent -0.2,-48.86 3,-47.66
3D body: height 3.2, standoff -3.2, extent -0.2,-46.32 3,-45.12
3D body: height 3.2, standoff -3.2, extent -0.2,-41.24 3,-40.04
3D body: height 3.2, standoff -3.2, extent -0.2,-43.78 3,-42.58
3D body: height 3.2, standoff -3.2, extent -0.2,-38.7 3,-37.5
3D body: height 3.2, standoff -3.2, extent -0.2,-36.16 3,-34.96